# EAGLE library part USB2412-DZK (library microchip)
SMSC USB2412 2-port USB 2.0 Hub Controller 28-pin QFN package Made by Microchip
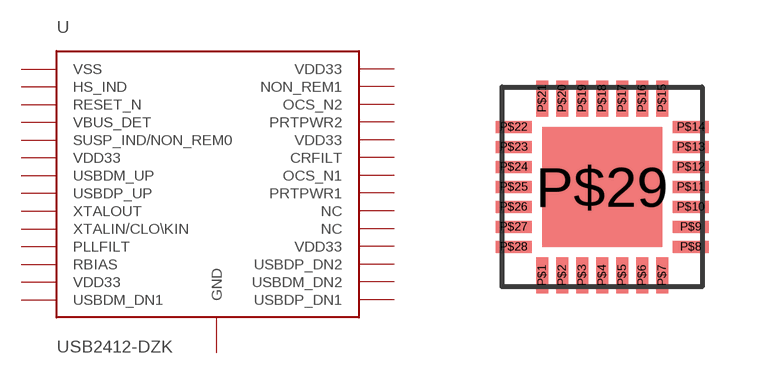
[diagram p0: symbol with the pads of QFN-28; footprint QFN-28]

Designator prefix -

## USB2412-DZK  [QFN-28]
P$1  USBDP_DN1
P$2  USBDM_DN2
P$3  USBDP_DN2
P$4  VDD33
P$5  NC
P$6  NC
P$7  PRTPWR1
P$8  OCS_N1
P$9  CRFILT
P$10  VDD33
P$11  PRTPWR2
P$12  OCS_N2
P$13  NON_REM1
P$14  VDD33
P$15  VSS
P$16  HS_IND
P$17  RESET_N
P$18  VBUS_DET
P$19  SUSP_IND/NON_REM0
P$20  VDD33
P$21  USBDM_UP
P$22  USBDP_UP
P$23  XTALOUT
P$24  XTALIN/CLO\KIN
P$25  PLLFILT
P$26  RBIAS
P$27  VDD33
P$28  USBDM_DN1
P$29  GND

## Footprint QFN-28 (pad centres in mm)
smd 0.3 x 0.9: P$1 -1.5,-2.215; P$2 -1,-2.215; P$3 -0.5,-2.215; P$4 0,-2.215; P$5 0.5,-2.215; P$6 1,-2.215; P$7 1.5,-2.215; P$15 1.5,2.215; P$16 1,2.215; P$17 0.5,2.215; P$18 0,2.215; P$19 -0.5,2.215; P$20 -1,2.215; P$21 -1.5,2.215
smd 0.9 x 0.3: P$8 2.215,-1.5; P$9 2.215,-1; P$10 2.215,-0.5; P$11 2.215,0; P$12 2.215,0.5; P$13 2.215,1; P$14 2.215,1.5; P$22 -2.215,1.5; P$23 -2.215,1; P$24 -2.215,0.5; P$25 -2.215,0; P$26 -2.215,-0.5; P$27 -2.215,-1; P$28 -2.215,-1.5
smd 3 x 3: P$29 0,0